# Altium footprint library marks.PCBLIB: 21 footprints (part 2 of 2)
Each footprint in its own frame and in the unit in brackets; x right, y up, seen from the top. Pads: shape width x height; smd on the part's side, far side on the other; paste and mask are expansions set on the pad; w line width, h text height; cw(c..) or ccw(c..) is an arc to the next point about the centre after c.
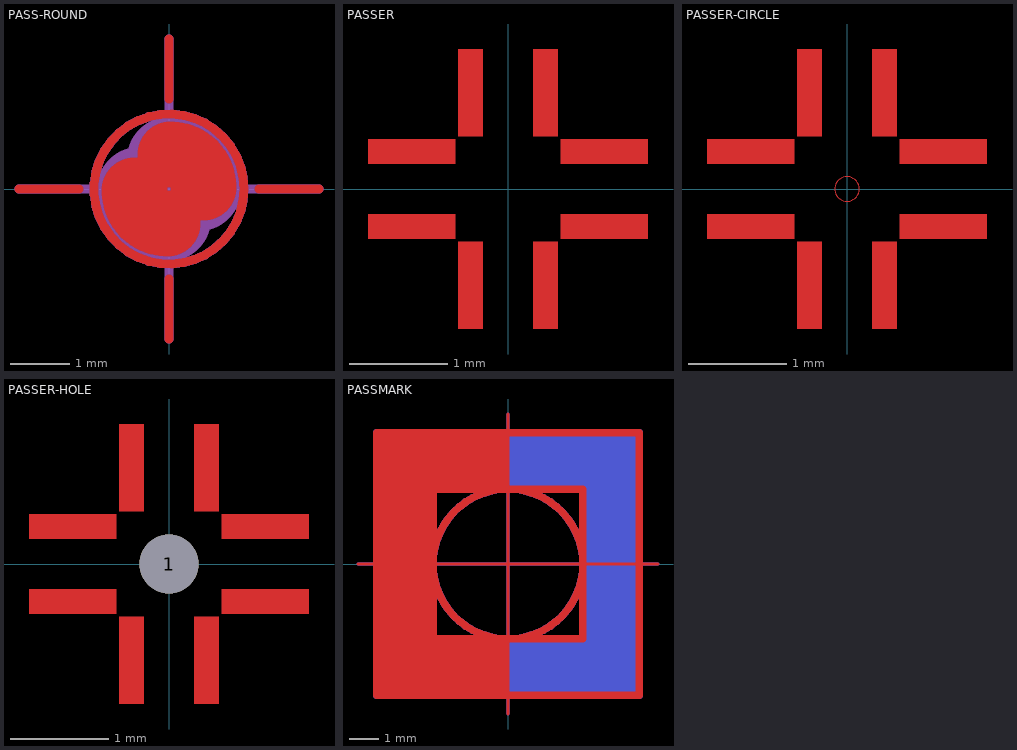
[diagram p1: the footprints below, top view; thin cyan lines are the x and y axes]

## PASS-ROUND [mm]
Top Layer:
  circle w0.152: c0,0 r1.27
  lines w0.152: -2.54,0 -1.524,0 ; 0,-2.54 0,-1.524 ; 0,1.524 0,2.54 ; 1.524,0 2.54,0
  lines w1.118: -0.584,-0.025 ccw(c-0.025,-0.025) -0.025,-0.584 ; 0.025,0.584 cw(c0.025,0.025) 0.584,0.025
Bottom Layer:
  circle w0.152: c0,0 r1.27
  lines w0.152: -2.54,0 -1.524,0 ; 0,-2.54 0,-1.524 ; 0,1.524 0,2.54 ; 1.524,0 2.54,0
  lines w1.118: -0.584,-0.025 ccw(c-0.025,-0.025) -0.025,-0.584 ; 0.025,0.584 cw(c0.025,0.025) 0.584,0.025
Top Solder:
  circle w0: c0,0 r2.54
Bottom Solder:
  circle w0: c0,0 r2.54
Mechanical 14:
  circle w0.152: c0,0 r1.27
  circle w0.152: c0,0 r1.27
  lines w0.152: -2.54,0 -1.27,0 ; 0,-2.54 0,-1.27 ; 0,1.27 0,2.54 ; 1.27,0 2.54,0
  lines w1.422: -0.508,0 ccw(c0,0) 0,-0.508 cw(c0,0) -0.508,0 ; 0,0.508 cw(c0,0) 0.508,0 ccw(c0,0) 0,0.508

## PASSER [mm]
Top Layer:
  rectangle: 0.533,-0.508 1.422,-0.254
  rectangle: 0.254,-1.422 0.508,-0.533
  rectangle: -0.508,-1.422 -0.254,-0.533
  rectangle: -1.422,-0.508 -0.533,-0.254
  rectangle: -1.422,0.254 -0.533,0.508
  rectangle: -0.508,0.533 -0.254,1.422
  rectangle: 0.254,0.533 0.508,1.422
  rectangle: 0.533,0.254 1.422,0.508
Top Solder:
  rectangle: -1.524,-1.524 1.524,1.524

## PASSER-CIRCLE [mm]
Top Layer:
  circle w0: c0,0 r0.125
  rectangle: 0.533,-0.508 1.422,-0.254
  rectangle: 0.254,-1.422 0.508,-0.533
  rectangle: -0.508,-1.422 -0.254,-0.533
  rectangle: -1.422,-0.508 -0.533,-0.254
  rectangle: -1.422,0.254 -0.533,0.508
  rectangle: -0.508,0.533 -0.254,1.422
  rectangle: 0.254,0.533 0.508,1.422
  rectangle: 0.533,0.254 1.422,0.508
Top Solder:
  rectangle: -1.524,-1.524 1.524,1.524

## PASSER-HOLE [mm]
pads (1):
  round 0.6 hole 0.6: 1(0,0)
Top Layer:
  rectangle: 0.533,-0.508 1.422,-0.254
  rectangle: 0.254,-1.422 0.508,-0.533
  rectangle: -0.508,-1.422 -0.254,-0.533
  rectangle: -1.422,-0.508 -0.533,-0.254
  rectangle: -1.422,0.254 -0.533,0.508
  rectangle: -0.508,0.533 -0.254,1.422
  rectangle: 0.254,0.533 0.508,1.422
  rectangle: 0.533,0.254 1.422,0.508
Top Solder:
  rectangle: -1.524,-1.524 1.524,1.524

## PASSMARK [mm]
Top Layer:
  circle w0.254: c0,0 r2.54
  region: 0,-2.54 -4.445,-2.54 -4.445,-4.445 0,-4.445
  region: -2.54,2.54 -4.445,2.54 -4.445,-2.54 -2.54,-2.54
  region: 0,4.445 -4.445,4.445 -4.445,2.54 0,2.54
  lines w0.102: -5.08,0 4.445,0 5.08,0 ; 0,-5.08 0,5.08
  lines w0.254: -4.445,-4.445 -4.445,4.445 4.445,4.445 4.445,0 4.445,-4.445 -4.445,-4.445 ; -2.54,-2.54 2.54,-2.54 2.54,2.54 -2.54,2.54 -2.54,-2.54
Bottom Layer:
  circle w0.254: c0,0 r2.54
  rectangle: 0,-4.445 4.445,-2.54
  rectangle: 2.54,-2.54 4.445,2.54
  rectangle: 0,2.54 4.445,4.445
  lines w0.102: -5.08,0 -4.445,0 5.08,0 ; 0,-5.08 0,5.08
  lines w0.254: -4.445,-4.445 4.445,-4.445 4.445,4.445 -4.445,4.445 -4.445,0 -4.445,-4.445 ; -2.54,-2.54 -2.54,2.54 2.54,2.54 2.54,-2.54 -2.54,-2.54
Top Solder:
  rectangle: -5.08,-5.08 5.08,5.08
Bottom Solder:
  rectangle: -5.08,-5.08 5.08,5.08
Mechanical 14:
  circle w0.254: c0,0 r2.54
  rectangle: 0,-4.445 4.445,-2.54
  rectangle: 2.54,-2.54 4.445,2.54
  rectangle: 0,2.54 4.445,4.445
  lines w0.102: -5.08,0 -4.445,0 5.08,0 ; 0,-5.08 0,5.08
  lines w0.254: -4.445,-4.445 4.445,-4.445 4.445,4.445 -4.445,4.445 -4.445,0 -4.445,-4.445 ; -2.54,-2.54 -2.54,2.54 2.54,2.54 2.54,-2.54 -2.54,-2.54